# Altium footprint library PcbLib1.PcbLib: 5 footprints
Each footprint in its own frame and in the unit in brackets; x right, y up, seen from the top. Pads: shape width x height; smd on the part's side, far side on the other; paste and mask are expansions set on the pad; w line width, h text height; cw(c..) or ccw(c..) is an arc to the next point about the centre after c.
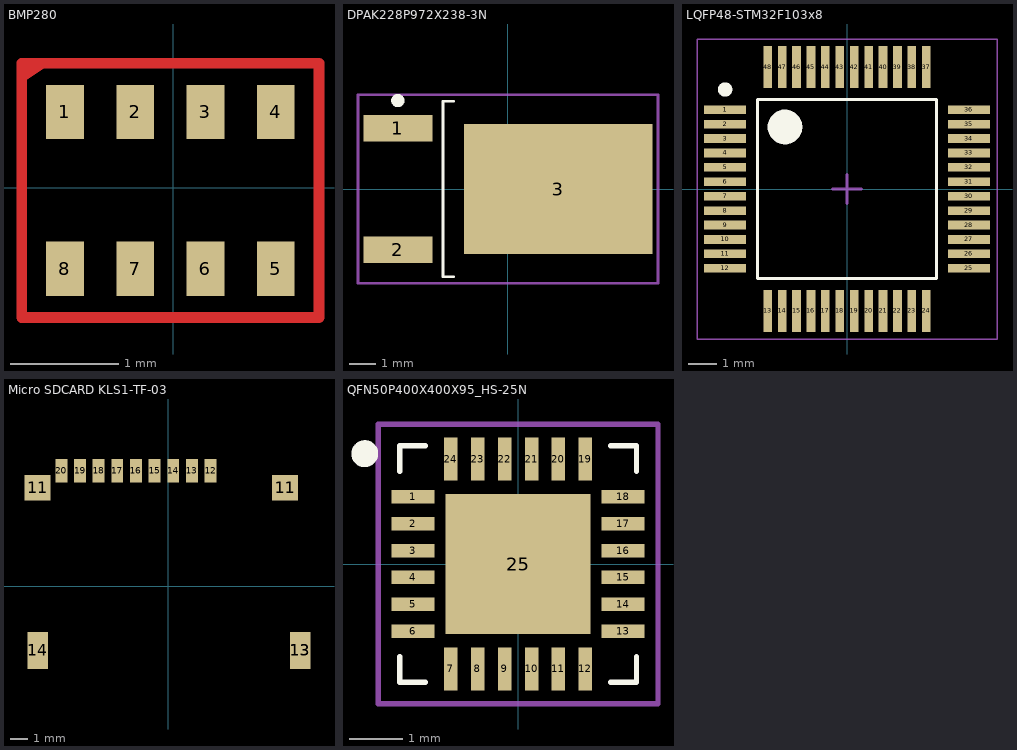
[diagram p0: the footprints below, top view; thin cyan lines are the x and y axes]

## BMP280 [mm]
pads (8):
  rect 0.35x0.5 smd mask+0.05: 1(-1,0.7) 2(-0.35,0.7) 3(0.3,0.7) 4(0.95,0.7) 5(0.95,-0.75) 6(0.3,-0.75) 7(-0.35,-0.75) 8(-1,-0.75)
Top Layer:
  region: -1.425,0.95 -1.088,1.175 -1.425,1.175
  lines w0.1: -1.4,-1.2 1.35,-1.2 1.35,1.15 -1.4,1.15 -1.4,-1.2
3D body "User Library-BMP280.step": height 0.95, standoff -0.01, extent -1.275,-1.025 1.225,0.975

## DPAK228P972X238-3N [mm] "D-PAK, 3-Pads, Body 6,20x6,66mm (max), IPC Medium Density"
height 2.38
pads (3):
  rect 2.6x1 smd: 1(-4.15,2.28) 2(-4.15,-2.28)
  rect 7.1x4.9 smd: 3(1.9,0)
Top Overlay:
  circle w0.25: c-4.15,3.33 r0.125
  lines w0.1: -2.05,-3.3 -2.45,-3.3 -2.45,3.3 -2.05,3.3
Mechanical 3:
  lines w0.1: -0.5,0 0.5,0 ; 0,-0.5 0,0.5 ; -5.65,-3.55 -5.65,3.55 5.65,3.55 5.65,-3.55 -5.65,-3.55
3D body "DPAK228P972X238-3N.step": height 2.83, standoff 0, extent -4.39,-3.3 5.335,3.3

## LQFP48-STM32F103x8 [mm] "TSQFP, 48-Leads, Body 7,00x7,00mm, Pitch 0,50mm, IPC Medium Density"
height 1.6
pads (48):
  rect 1.45x0.3 smd mask+0.05: 1(-4.225,2.75) 2(-4.225,2.25) 3(-4.225,1.75) 4(-4.225,1.25) 5(-4.225,0.75) 6(-4.225,0.25) 7(-4.225,-0.25) 9(-4.225,-1.25) 10(-4.225,-1.75) 11(-4.225,-2.25) 12(-4.225,-2.75) 25(4.225,-2.75) 26(4.225,-2.25) 27(4.225,-1.75) 28(4.225,-1.25) 29(4.225,-0.75) 30(4.225,-0.25) 31(4.225,0.25) 32(4.225,0.75) 33(4.225,1.25) 34(4.225,1.75) 35(4.225,2.25) 36(4.225,2.75)
  rect 1.45x0.3 smd paste+0 mask+0.05: 8(-4.225,-0.75)
  rect 0.3x1.45 smd mask+0.05: 13(-2.75,-4.225) 14(-2.25,-4.225) 15(-1.75,-4.225) 16(-1.25,-4.225) 17(-0.75,-4.225) 18(-0.25,-4.225) 19(0.25,-4.225) 20(0.75,-4.225) 21(1.25,-4.225) 22(1.75,-4.225) 23(2.25,-4.225) 24(2.75,-4.225) 37(2.75,4.225) 38(2.25,4.225) 39(1.75,4.225) 40(1.25,4.225) 41(0.75,4.225) 42(0.25,4.225) 43(-0.25,4.225) 44(-0.75,4.225) 45(-1.25,4.225) 46(-1.75,4.225) 47(-2.25,4.225) 48(-2.75,4.225)
Top Overlay:
  circle w0.25: c-4.225,3.45 r0.125
  circle w0.6: c-2.15,2.15 r0.3
  lines w0.1: -3.1,-3.1 -3.1,3.1 3.1,3.1 3.1,-3.1 -3.1,-3.1
Mechanical 3:
  lines w0.05: -5.2,-5.2 5.2,-5.2 5.2,5.2 -5.2,5.2 -5.2,-5.2
  lines w0.1: -0.5,0 0.5,0 ; 0,-0.5 0,0.5
3D body "LQFP48-STM32F103x8.step": height 1.6, standoff 0, extent -4.5,-4.5 4.5,4.5

## Micro SDCARD KLS1-TF-03 [mm]
pads (14):
  rect 1.524x1.524 smd: 11(-7.7,5.8) 11(6.9,5.8)
  rect 0.7x1.4 smd: 12(2.5,6.8) 13(1.4,6.8) 14(0.3,6.8) 15(-0.8,6.8) 16(-1.9,6.8) 17(-3,6.8) 18(-4.1,6.8) 19(-5.2,6.8) 20(-6.3,6.8)
  rect 1.2x2.2 smd: 13(7.8,-3.8) 13(7.8,-3.8) 14(-7.7,-3.8)
3D body "KLS1-TF-003D--3DModel-STEP-56544.STEP": height 1.91, standoff -0.6, extent -7.8,-8.2 8.4,6.8

## QFN50P400X400X95_HS-25N [mm] "QFN, 24-Leads, Body 4,00x4,00mm, Pitch 0,50mm, Thermal Pad 2,70x2,60mm, IPC Medium Density"
height 0.95
pads (25):
  rect 0.8x0.25 smd mask+0.05: 1(-1.95,1.25) 2(-1.95,0.75) 3(-1.95,0.25) 4(-1.95,-0.25) 5(-1.95,-0.75) 6(-1.95,-1.25) 13(1.95,-1.25) 14(1.95,-0.75) 15(1.95,-0.25) 16(1.95,0.25) 17(1.95,0.75) 18(1.95,1.25)
  rect 0.25x0.8 smd mask+0.05: 7(-1.25,-1.95) 8(-0.75,-1.95) 9(-0.25,-1.95) 10(0.25,-1.95) 11(0.75,-1.95) 12(1.25,-1.95) 19(1.25,1.95) 20(0.75,1.95) 21(0.25,1.95) 22(-0.25,1.95) 23(-0.75,1.95) 24(-1.25,1.95)
  rect 2.7x2.6 smd: 25(0,0)
Top Overlay:
  circle w0.25: c-2.85,2.05 r0.125
  lines w0.1: -2.2,-1.725 -2.2,-2.2 -1.725,-2.2 ; -2.2,1.725 -2.2,2.2 -1.725,2.2 ; 1.725,-2.2 2.2,-2.2 2.2,-1.725 ; 1.725,2.2 2.2,2.2 2.2,1.725
Mechanical 3:
  lines w0.1: -0.5,0 0.5,0 ; 0,-0.5 0,0.5 ; -2.6,-2.6 -2.6,2.6 2.6,2.6 2.6,-2.6 -2.6,-2.6
3D body "QFN50P400X400X95_HS-25N.step": height 0.95, standoff 0, extent -2.051,-2.051 2.051,2.051